# EAGLE library part COM-14608 (library APA102–2020)
SparkFun Accessories SMD LED - RGB APA102-2020 Source: Datasheet <https://componentsearchengine.com/Datasheets/1/COM-14608.pdf>
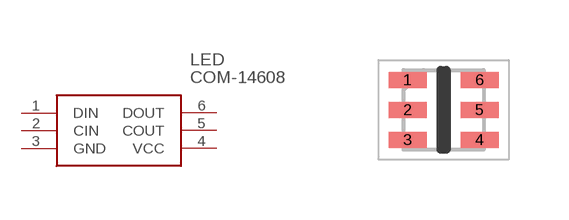
[diagram p0: symbol with the pads of SON75P200X200X100-6N; footprint SON75P200X200X100-6N]

Designator prefix LED

## COM-14608 (Arrow_Part_Number: COM-14608; Description: SparkFun Accessories SMD LED - RGB APA102-2020; Height: 1mm; Manufacturer_Name: SparkFun; Manufacturer_Part_Number: COM-14608)  [SON75P200X200X100-6N]
1  DIN
2  CIN
3  GND
4  VCC
5  COUT
6  DOUT

## Footprint SON75P200X200X100-6N (pad centres in mm)
COM-14608
smd 0.95 x 0.4: 1 -0.9,0.75; 2 -0.9,0; 3 -0.9,-0.75; 4 0.9,-0.75; 5 0.9,0; 6 0.9,0.75